# Altium integrated library S9013.IntLib: 1 symbol
Pins are listed as number, name and electrical type; pins without a type are passive.

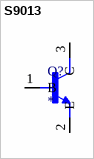
[diagram p0: symbol S9013]

## S9013
designator Q?
Bipolar (BJT) Transistor NPN 25 V 500 mA 150MHz 625 mW Through Hole TO-92; MP: S9013; MF: Yangjie Technology; Value: *; SnapEDA_Link: https://www.snapeda.com/parts/S9013/E-Tech/view-part/?ref=snap; Purchase-URL: https://pricing.snapeda.com/search/part/S9013/?ref=eda; Check_prices: https://www.snapeda.com/parts/S9013/E-Tech/view-part/?ref=eda; Availability: In Stock; Price: None; Package: None
footprint SOT95P240X120-3N
pins: 1 B, 2 E, 3 C